# EAGLE library part CY8C3446AXI-099 (library Cypress_By_element14_Batch_1)
Programmable System-on-Chip
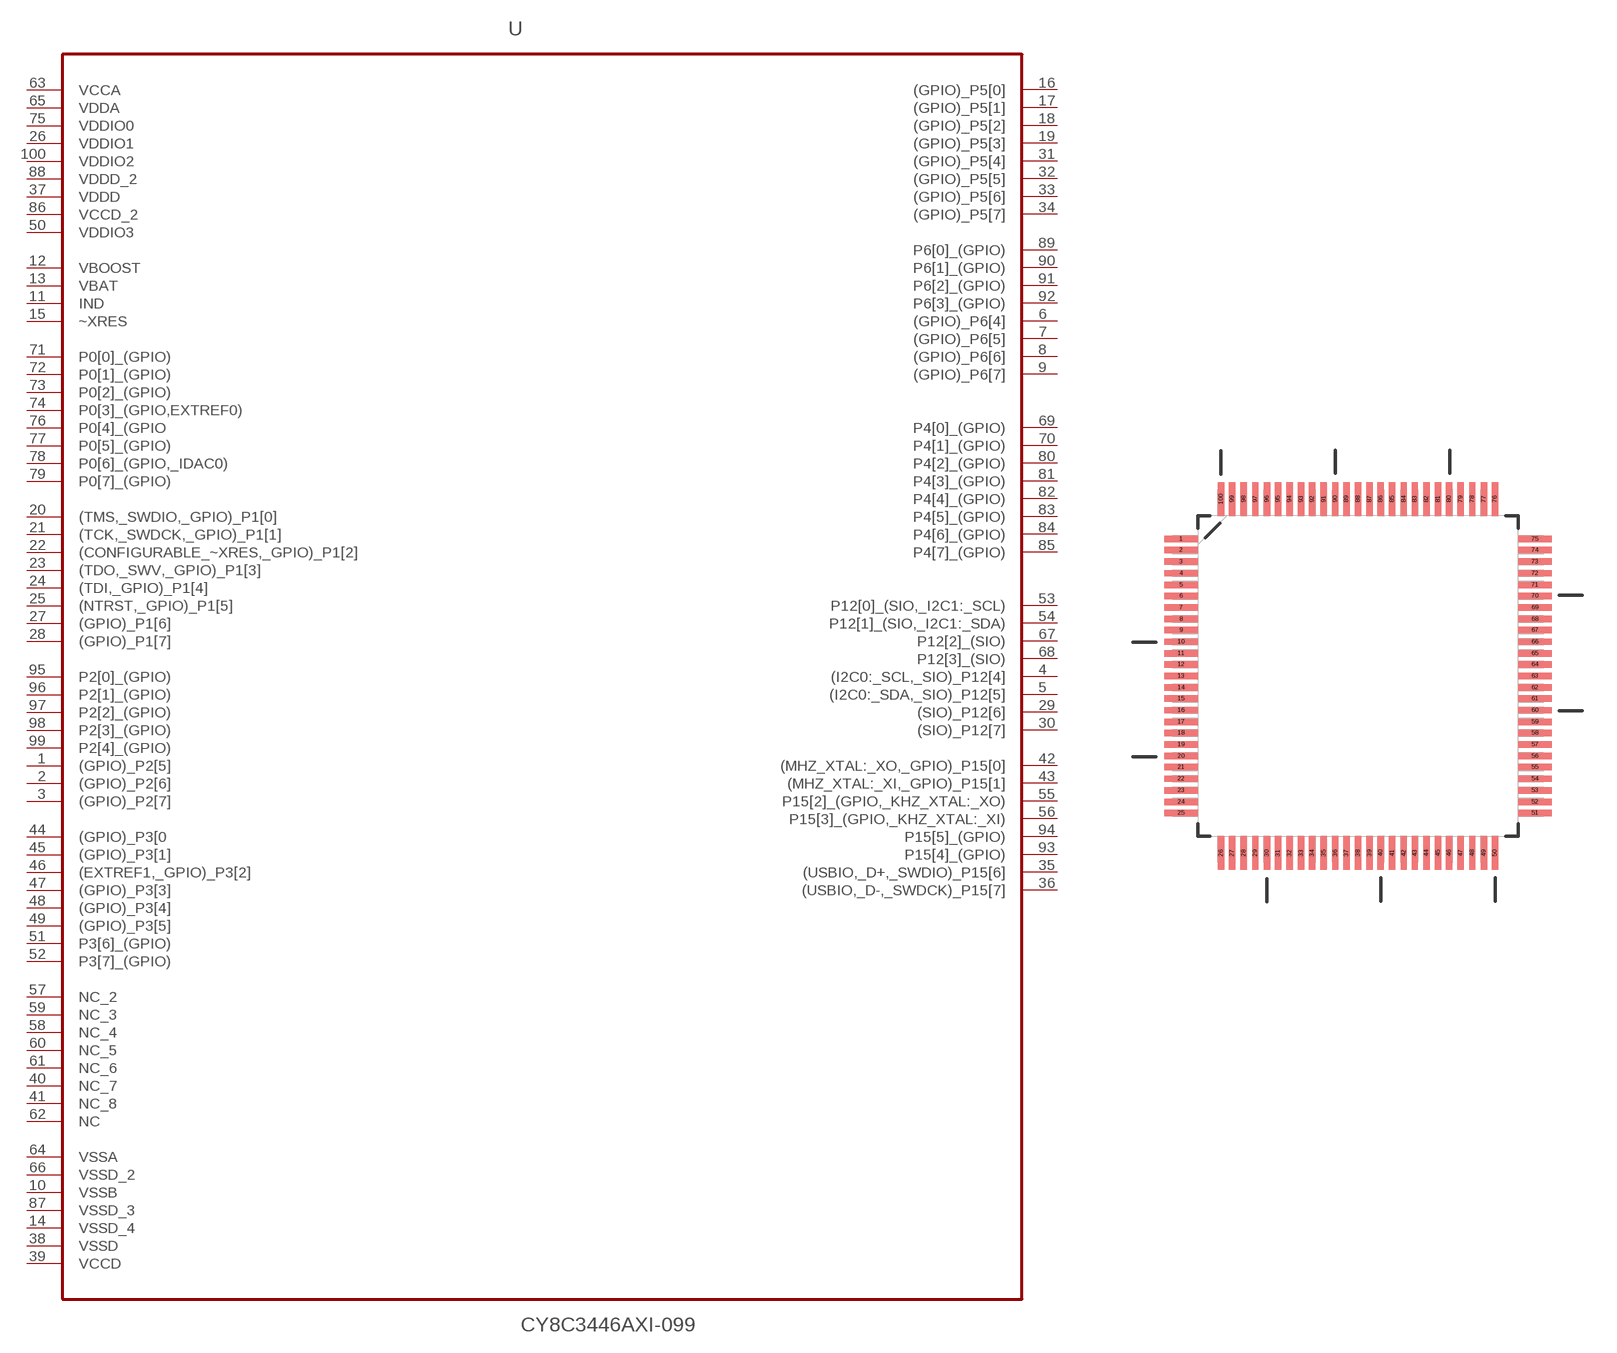
[diagram p16: symbol with the pads of QFP50P1600X1600X160-100N; footprint QFP50P1600X1600X160-100N]

Designator prefix U

## CY8C3446AXI-099 (DESCRIPTION: Programmable System-on-Chip; MPN: CY8C3446AXI-099; OC_FARNELL: -; OC_NEWARK: 14T2614; PACKAGE: LQFP-100; SUPPLIER: CYPRESS SEMICONDUCTOR)  [QFP50P1600X1600X160-100N]
1  (GPIO)_P2[5]
2  (GPIO)_P2[6]
3  (GPIO)_P2[7]
4  (I2C0:_SCL,_SIO)_P12[4]
5  (I2C0:_SDA,_SIO)_P12[5]
6  (GPIO)_P6[4]
7  (GPIO)_P6[5]
8  (GPIO)_P6[6]
9  (GPIO)_P6[7]
10  VSSB  pwr
11  IND  in
12  VBOOST  in
13  VBAT  in
14  VSSD_4  pwr
15  ~XRES  in
16  (GPIO)_P5[0]
17  (GPIO)_P5[1]
18  (GPIO)_P5[2]
19  (GPIO)_P5[3]
20  (TMS,_SWDIO,_GPIO)_P1[0]
21  (TCK,_SWDCK,_GPIO)_P1[1]
22  (CONFIGURABLE_~XRES,_GPIO)_P1[2]
23  (TDO,_SWV,_GPIO)_P1[3]
24  (TDI,_GPIO)_P1[4]
25  (NTRST,_GPIO)_P1[5]
26  VDDIO1  pwr
27  (GPIO)_P1[6]
28  (GPIO)_P1[7]
29  (SIO)_P12[6]
30  (SIO)_P12[7]
31  (GPIO)_P5[4]
32  (GPIO)_P5[5]
33  (GPIO)_P5[6]
34  (GPIO)_P5[7]
35  (USBIO,_D+,_SWDIO)_P15[6]
36  (USBIO,_D-,_SWDCK)_P15[7]
37  VDDD  pwr
38  VSSD  pwr
39  VCCD  pwr
40  NC_7  nc
41  NC_8  nc
42  (MHZ_XTAL:_XO,_GPIO)_P15[0]
43  (MHZ_XTAL:_XI,_GPIO)_P15[1]
44  (GPIO)_P3[0
45  (GPIO)_P3[1]
46  (EXTREF1,_GPIO)_P3[2]
47  (GPIO)_P3[3]
48  (GPIO)_P3[4]
49  (GPIO)_P3[5]
50  VDDIO3  pwr
51  P3[6]_(GPIO)
52  P3[7]_(GPIO)
53  P12[0]_(SIO,_I2C1:_SCL)
54  P12[1]_(SIO,_I2C1:_SDA)
55  P15[2]_(GPIO,_KHZ_XTAL:_XO)
56  P15[3]_(GPIO,_KHZ_XTAL:_XI)
57  NC_2  nc
58  NC_4  nc
59  NC_3  nc
60  NC_5  nc
61  NC_6  nc
62  NC  nc
63  VCCA  pwr
64  VSSA  pwr
65  VDDA  pwr
66  VSSD_2  pwr
67  P12[2]_(SIO)
68  P12[3]_(SIO)
69  P4[0]_(GPIO)
70  P4[1]_(GPIO)
71  P0[0]_(GPIO)
72  P0[1]_(GPIO)
73  P0[2]_(GPIO)
74  P0[3]_(GPIO,EXTREF0)
75  VDDIO0  pwr
76  P0[4]_(GPIO
77  P0[5]_(GPIO)
78  P0[6]_(GPIO,_IDAC0)
79  P0[7]_(GPIO)
80  P4[2]_(GPIO)  pwr
81  P4[3]_(GPIO)  pas
82  P4[4]_(GPIO)
83  P4[5]_(GPIO)
84  P4[6]_(GPIO)
85  P4[7]_(GPIO)
86  VCCD_2  pwr
87  VSSD_3  pwr
88  VDDD_2  pwr
89  P6[0]_(GPIO)
90  P6[1]_(GPIO)
91  P6[2]_(GPIO)
92  P6[3]_(GPIO)
93  P15[4]_(GPIO)
94  P15[5]_(GPIO)
95  P2[0]_(GPIO)
96  P2[1]_(GPIO)
97  P2[2]_(GPIO)
98  P2[3]_(GPIO)
99  P2[4]_(GPIO)
100  VDDIO2  pwr

## Footprint QFP50P1600X1600X160-100N (pad centres in mm)
smd 1.473 x 0.279: 1 -7.747,5.994; 2 -7.747,5.512; 3 -7.747,5.004; 4 -7.747,4.496; 5 -7.747,3.988; 6 -7.747,3.505; 7 -7.747,2.997; 8 -7.747,2.489; 9 -7.747,2.007; 10 -7.747,1.499; 11 -7.747,0.991; 12 -7.747,0.508; 13 -7.747,0; 14 -7.747,-0.508; 15 -7.747,-0.991; 16 -7.747,-1.499; 17 -7.747,-2.007; 18 -7.747,-2.489; 19 -7.747,-2.997; 20 -7.747,-3.505; 21 -7.747,-3.988; 22 -7.747,-4.496; 23 -7.747,-5.004; 24 -7.747,-5.512; 25 -7.747,-5.994; 51 7.747,-5.994; 52 7.747,-5.512; 53 7.747,-5.004; 54 7.747,-4.496; 55 7.747,-3.988; 56 7.747,-3.505; 57 7.747,-2.997; 58 7.747,-2.489; 59 7.747,-2.007; 60 7.747,-1.499; 61 7.747,-0.991; 62 7.747,-0.508; 63 7.747,0; 64 7.747,0.508; 65 7.747,0.991; 66 7.747,1.499; 67 7.747,2.007; 68 7.747,2.489; 69 7.747,2.997; 70 7.747,3.505; 71 7.747,3.988; 72 7.747,4.496; 73 7.747,5.004; 74 7.747,5.512; 75 7.747,5.994
smd 0.279 x 1.473: 26 -5.994,-7.747; 27 -5.512,-7.747; 28 -5.004,-7.747; 29 -4.496,-7.747; 30 -3.988,-7.747; 31 -3.505,-7.747; 32 -2.997,-7.747; 33 -2.489,-7.747; 34 -2.007,-7.747; 35 -1.499,-7.747; 36 -0.991,-7.747; 37 -0.508,-7.747; 38 0,-7.747; 39 0.508,-7.747; 40 0.991,-7.747; 41 1.499,-7.747; 42 2.007,-7.747; 43 2.489,-7.747; 44 2.997,-7.747; 45 3.505,-7.747; 46 3.988,-7.747; 47 4.496,-7.747; 48 5.004,-7.747; 49 5.512,-7.747; 50 5.994,-7.747; 76 5.994,7.747; 77 5.512,7.747; 78 5.004,7.747; 79 4.496,7.747; 80 3.988,7.747; 81 3.505,7.747; 82 2.997,7.747; 83 2.489,7.747; 84 2.007,7.747; 85 1.499,7.747; 86 0.991,7.747; 87 0.508,7.747; 88 0,7.747; 89 -0.508,7.747; 90 -0.991,7.747; 91 -1.499,7.747; 92 -2.007,7.747; 93 -2.489,7.747; 94 -2.997,7.747; 95 -3.505,7.747; 96 -3.988,7.747; 97 -4.496,7.747; 98 -5.004,7.747; 99 -5.512,7.747; 100 -5.994,7.747